# Altium footprint library 7seg.PcbLib: 1 footprints
Each footprint in its own frame and in the unit in brackets; x right, y up, seen from the top. Pads: shape width x height; smd on the part's side, far side on the other; paste and mask are expansions set on the pad; w line width, h text height; cw(c..) or ccw(c..) is an arc to the next point about the centre after c.
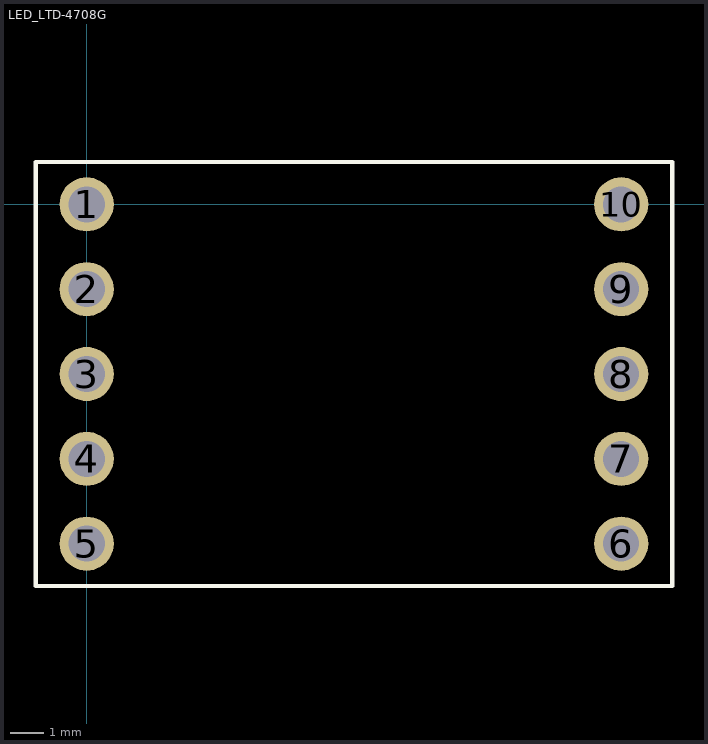
[diagram p0: the footprint, top view; thin cyan lines are the x and y axes]

## LED_LTD-4708G [mm]
pads (10):
  round 1.62 hole 1.08: 1(0,0) 2(0,-2.54) 3(0,-5.08) 4(0,-7.62) 5(0,-10.16) 6(16,-10.16) 7(16,-7.62) 8(16,-5.08) 9(16,-2.54) 10(16,0)
Top Overlay:
  lines w0.127: -1.524,-11.43 17.526,-11.43 17.526,1.27 -1.524,1.27 -1.524,-11.43